# Altium integrated library NSC RF and IF Transmitter.IntLib: 1 symbol
Pins are listed as number, name and electrical type; pins without a type are passive.

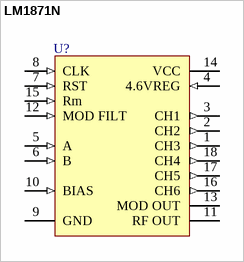
[diagram p0: symbol LM1871N]

## LM1871N
designator U?
RC Encoder/Transmitter; Published: 15-Apr-2002; LatestRevisionDate: 06-Jun-2005; LatestRevisionNote: Stylized 3D Model Added.; DatasheetVersion: 1989; PackageVersion: 1995; PackageReference: N18A; Publisher: Altium Limited; PackageDescription: DIP; 18 Leads; Row Spacing 7.62 mm; Pitch 2.54 mm; Code_JEDEC: MS-001-BC; ComponentLink1Description: Manufacturer Link; ComponentLink1URL: http://www.national.com/
footprint N18A (DIP; 18 Leads; Row Spacing 7.62 mm; Pitch 2.54 mm)
3D model N18A (DIP; 18 Leads; Row Spacing 7.62 mm; Pitch 2.54 mm)
pins: 1 CH3 (out), 2 CH2 (out), 3 CH1 (out), 4 4.6VREG (in), 5 A (in), 6 B (in), 7 RST (in), 8 CLK (in), 9 GND (power), 10 BIAS (in), 11 RF OUT, 12 MOD FILT (in), 13 MOD OUT, 14 VCC (power), 15 Rm (in), 16 CH6 (out), 17 CH5 (out), 18 CH4 (out)